# EAGLE library part TEENSY_4.1 (library TEENSY_4.1)
Teensy 4.1 Development Board Source: Datasheet <https://www.pjrc.com/store/teensy41.html>
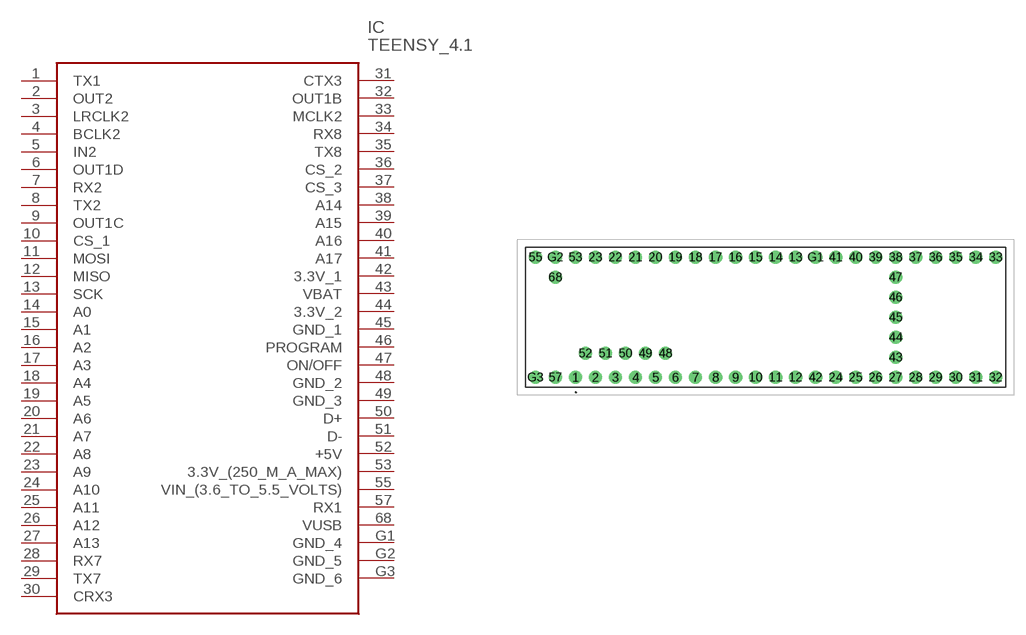
[diagram p0: symbol with the pads of TEENSY41; footprint TEENSY41]

Designator prefix IC

## TEENSY_4.1 (Description: Teensy 4.1 Development Board; Height: 4.07mm; Manufacturer_Name: PJRC; Manufacturer_Part_Number: TEENSY 4.1)  [TEENSY41]
1  TX1
2  OUT2
3  LRCLK2
4  BCLK2
5  IN2
6  OUT1D
7  RX2
8  TX2
9  OUT1C
10  CS_1
11  MOSI
12  MISO
13  SCK
14  A0
15  A1
16  A2
17  A3
18  A4
19  A5
20  A6
21  A7
22  A8
23  A9
24  A10
25  A11
26  A12
27  A13
28  RX7
29  TX7
30  CRX3
31  CTX3
32  OUT1B
33  MCLK2
34  RX8
35  TX8
36  CS_2
37  CS_3
38  A14
39  A15
40  A16
41  A17
42  3.3V_1
43  VBAT
44  3.3V_2
45  GND_1
46  PROGRAM
47  ON/OFF
48  GND_2
49  GND_3
50  D+
51  D-
52  +5V
53  3.3V_(250_M_A_MAX)
55  VIN_(3.6_TO_5.5_VOLTS)
57  RX1
68  VUSB
G1  GND_4
G2  GND_5
G3  GND_6

## Footprint TEENSY41 (pad centres in mm)
TEENSY 4.1-4
drill 1.11 pad 1.665: 1 0,0; 2 2.54,0; 3 5.08,0; 4 7.62,0; 5 10.16,0; 6 12.7,0; 7 15.24,0; 8 17.78,0; 9 20.32,0; 10 22.86,0; 11 25.4,0; 12 27.94,0; 13 27.94,15.24; 14 25.4,15.24; 15 22.86,15.24; 16 20.32,15.24; 17 17.78,15.24; 18 15.24,15.24; 19 12.7,15.24; 20 10.16,15.24; 21 7.62,15.24; 22 5.08,15.24; 23 2.54,15.24; 24 33.02,0; 25 35.56,0; 26 38.1,0; 27 40.64,0; 28 43.18,0; 29 45.72,0; 30 48.26,0; 31 50.8,0; 32 53.34,0; 33 53.34,15.24; 34 50.8,15.24; 35 48.26,15.24; 36 45.72,15.24; 37 43.18,15.24; 38 40.64,15.24; 39 38.1,15.24; 40 35.56,15.24; 41 33.02,15.24; 42 30.48,0; 43 40.64,2.54; 44 40.64,5.08; 45 40.64,7.62; 46 40.64,10.16; 47 40.64,12.7; 48 11.43,3.05; 49 8.89,3.05; 50 6.35,3.05; 51 3.81,3.05; 52 1.27,3.05; 53 0,15.24; 55 -5.08,15.24; 57 -2.54,0; 68 -2.54,12.7; G1 30.48,15.24; G2 -2.54,15.24; G3 -5.08,0